# Altium schematic symbol library 22053021.SchLib: 1 symbol
Pins are listed as number, name and electrical type; pins without a type are passive.

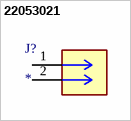
[diagram p0: symbol 22053021]

## 22053021
designator J?
MP: 22053021; Package: None; Price: None; Value: *; Availability: Unavailable
footprint CONN_A-7478-02A_MOL
pins: 1, 2